# Altium footprint library Pulser Driver4,2.PcbLib: 46 footprints (part 2 of 3)
Each footprint in its own frame and in the unit in brackets; x right, y up, seen from the top. Pads: shape width x height; smd on the part's side, far side on the other; paste and mask are expansions set on the pad; w line width, h text height; cw(c..) or ccw(c..) is an arc to the next point about the centre after c.
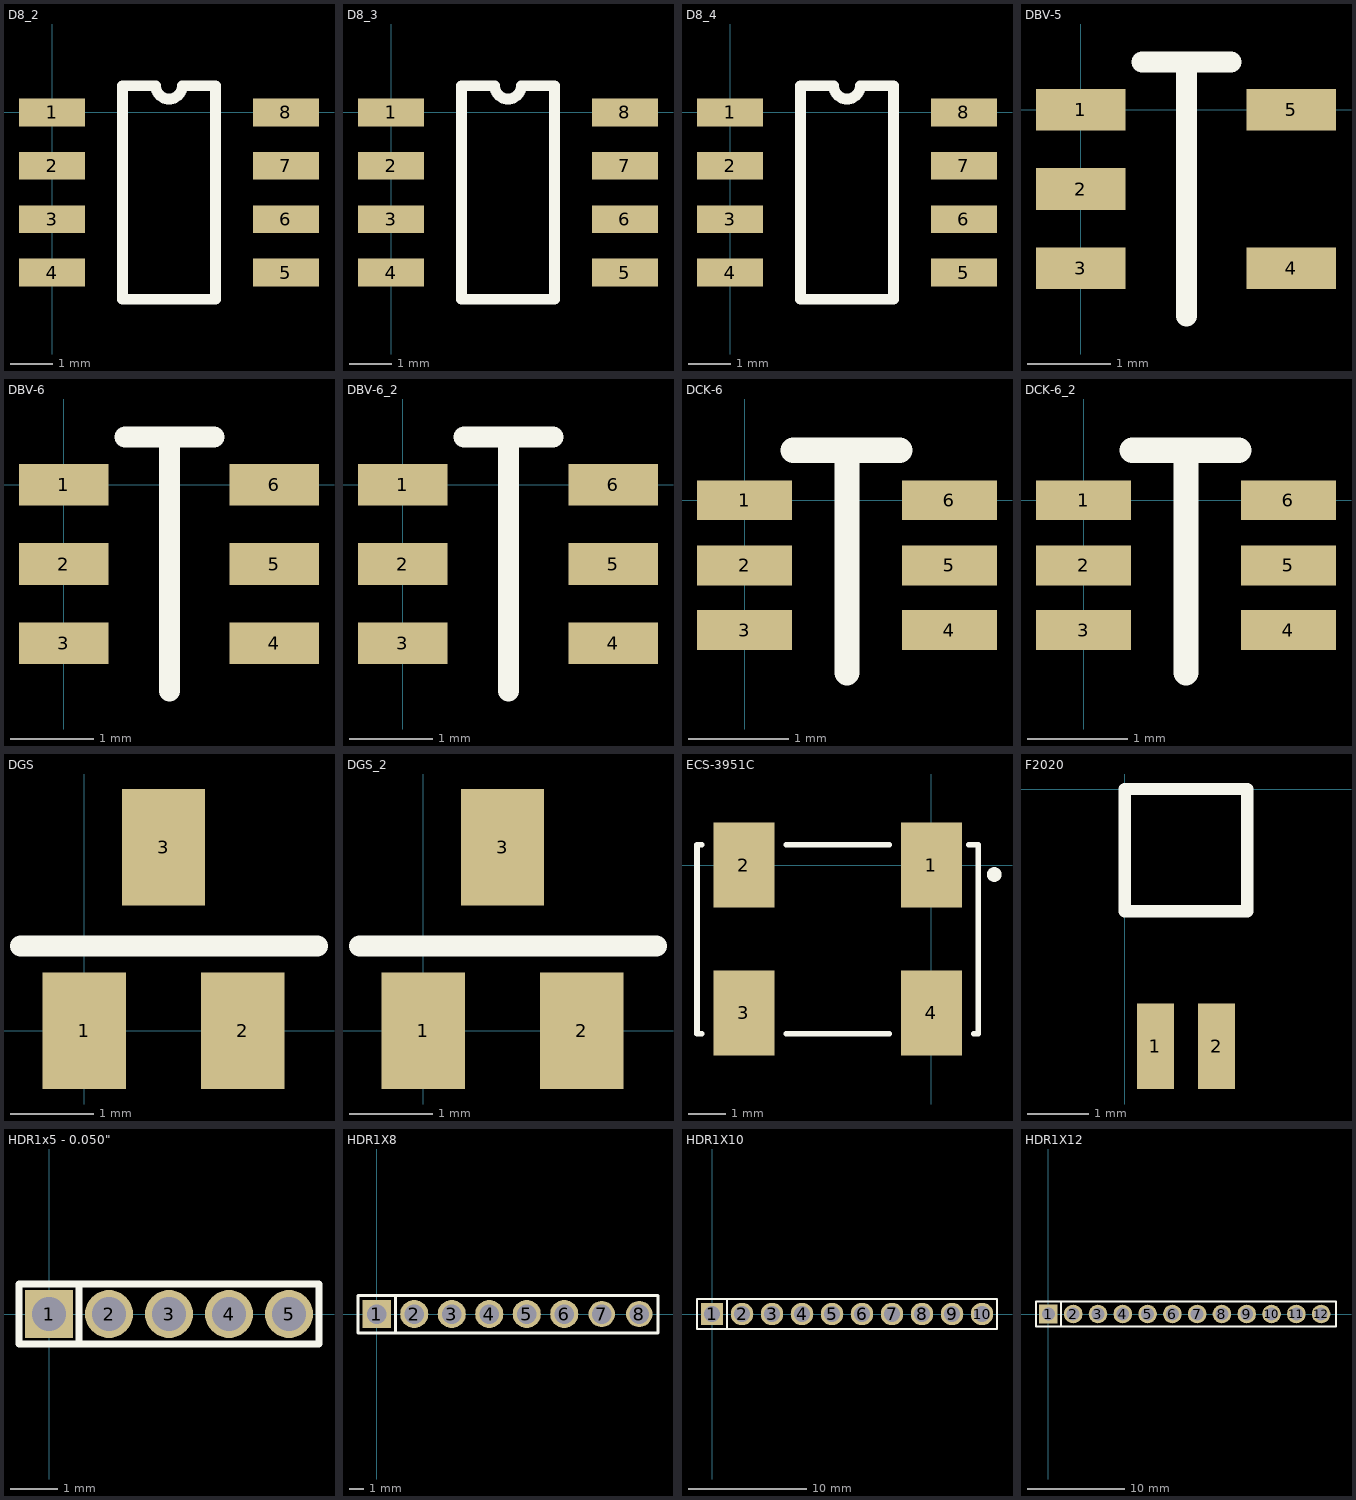
[diagram p1: the footprints below, top view; thin cyan lines are the x and y axes]

## D8_2 [mil]
pads (8):
  rect 62x26 smd: 1(0,0) 2(0,-50) 3(0,-100) 4(0,-150) 5(219,-150) 6(219,-100) 7(219,-50) 8(219,0)
Top Overlay:
  lines w10: 66,-175 66,25 97,25 ccw(c109.5,25) 122,25 153,25 153,-175 66,-175

## D8_3 [mil]
pads (8):
  rect 62x26 smd: 1(0,0) 2(0,-50) 3(0,-100) 4(0,-150) 5(219,-150) 6(219,-100) 7(219,-50) 8(219,0)
Top Overlay:
  lines w10: 66,-175 66,25 97,25 ccw(c109.5,25) 122,25 153,25 153,-175 66,-175

## D8_4 [mil]
pads (8):
  rect 62x26 smd: 1(0,0) 2(0,-50) 3(0,-100) 4(0,-150) 5(219,-150) 6(219,-100) 7(219,-50) 8(219,0)
Top Overlay:
  lines w10: 66,-175 66,25 97,25 ccw(c109.5,25) 122,25 153,25 153,-175 66,-175

## DBV-5 [mm] "SOT-23-5 Footprint for TI devices"
height 1.45
pads (5):
  rect 1.075x0.5 smd: 1(0,0) 2(0,-0.95) 3(0,-1.9) 4(2.525,-1.9) 5(2.525,0)
Top Overlay:
  lines w0.254: 0.737,0.575 1.803,0.575 ; 1.27,-2.475 1.27,0.575

## DBV-6 [mm] "SOT-23-6 Footprint for TI devices"
height 1.45
pads (6):
  rect 1.075x0.5 smd: 1(0,0) 2(0,-0.95) 3(0,-1.9) 4(2.525,-1.9) 5(2.525,-0.95) 6(2.525,0)
Top Overlay:
  lines w0.254: 0.737,0.575 1.803,0.575 ; 1.27,-2.475 1.27,0.575

## DBV-6_2 [mm]
pads (6):
  rect 1.075x0.5 smd: 1(0,0) 2(0,-0.95) 3(0,-1.9) 4(2.525,-1.9) 5(2.525,-0.95) 6(2.525,0)
Top Overlay:
  lines w0.254: 0.737,0.575 1.803,0.575 ; 1.27,-2.475 1.27,0.575

## DCK-6 [mm] "SC-70-6 Footprint for TI devices"
height 1.1
pads (6):
  rect 0.95x0.4 smd: 1(0,0) 2(0,-0.65) 3(0,-1.3) 4(2.05,-1.3) 5(2.05,-0.65) 6(2.05,0)
Top Overlay:
  lines w0.254: 0.487,0.5 1.553,0.5 ; 1.025,-1.725 1.025,0.5

## DCK-6_2 [mm]
pads (6):
  rect 0.95x0.4 smd: 1(0,0) 2(0,-0.65) 3(0,-1.3) 4(2.05,-1.3) 5(2.05,-0.65) 6(2.05,0)
Top Overlay:
  lines w0.254: 0.487,0.5 1.553,0.5 ; 1.025,-1.725 1.025,0.5

## DGS [mm]
height 1.45
pads (3):
  rect 1x1.4 smd: 1(0,0) 2(1.9,0) 3(0.95,2.2)
Top Overlay:
  lines w0.254: -0.762,1.016 2.794,1.016

## DGS_2 [mm]
pads (3):
  rect 1x1.4 smd: 1(0,0) 2(1.9,0) 3(0.95,2.2)
Top Overlay:
  lines w0.254: -0.762,1.016 2.794,1.016

## ECS-3951C [mm]
pads (4):
  rect 1.65x2.3 smd: 1(0,0) 2(-5.08,0) 3(-5.08,-4) 4(0,-4)
Top Overlay:
  circle w0.254: c1.706,-0.254 r0.072
  lines w0.152: -6.223,-4.572 -6.35,-4.572 -6.35,0.55 -6.223,0.55 ; -3.937,-4.572 -1.143,-4.572 ; -3.937,0.55 -1.143,0.55 ; 1.016,0.55 1.27,0.55 1.27,-4.572 1.143,-4.572

## F2020 [mm] "F2020 Resistive Temperature Detector"
pads (2):
  rect 0.6x1.4 smd: 1(0.5,-4.2) 2(1.5,-4.2)
Top Overlay:
  lines w0.203: 0,-2 2,-2 2,0 0,0 0,-2

## HDR1x5 - 0.050" [mil] "Header Pin Connector - 0.050\" Pitch"
pads (5):
  rect 40x40 hole 28: 1(0,0)
  round 40 hole 28: 2(50,0) 3(100,0) 4(150,0) 5(200,0)
Top Overlay:
  lines w6: 25,-25 25,25 ; -25,-25 225,-25 225,25 -25,25 -25,-25

## HDR1X8 [mil]
pads (8):
  rect 75x75 hole 52: 1(0,0)
  round 75 hole 52: 2(100,0) 3(200,0) 4(300,0) 5(400,0) 6(500,0)
  round 70 hole 52: 7(600,0) 8(700,0)
Top Overlay:
  lines w8: 50,-50 50,50 ; -50,-50 -50,50 750,50 750,-50 -50,-50

## HDR1X10 [mil]
pads (10):
  rect 75x75 hole 52: 1(0,0)
  round 75 hole 52: 2(100,0) 3(200,0) 4(300,0) 5(400,0) 6(500,0) 7(600,0) 8(700,0) 9(800,0) 10(900,0)
Top Overlay:
  lines w8: 50,-50 50,50 ; -50,-50 -50,50 950,50 950,-50 -50,-50

## HDR1X12 [mil]
pads (12):
  rect 75x75 hole 52: 1(0,0)
  round 75 hole 52: 2(100,0) 3(200,0) 4(300,0) 5(400,0) 6(500,0) 7(600,0) 8(700,0) 9(800,0) 10(900,0) 11(1000,0) 12(1100,0)
Top Overlay:
  lines w8: 50,-50 50,50 ; -50,-50 -50,50 1160,50 1160,-50 -50,-50